# Altium schematic symbol library TMC5072-LA-T.SchLib: 1 symbol
Pins are listed as number, name and electrical type; pins without a type are passive.

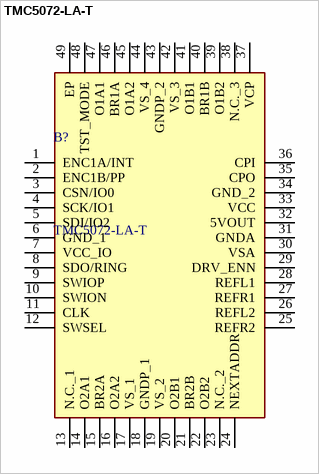
[diagram p0: symbol TMC5072-LA-T]

## TMC5072-LA-T
designator B?
Dual silent stepper motor cDriver 5 to 20V, up to 1.1A with SPI Interface, 256 Steps, SixPoint ramp controller, SpreadCycle and Stealthchop; Manufacturer_Name: Analog Devices; Geometry.Height: 0.9mm; Manufacturer_Part_Number: TMC5072-LA-T; Mouser Part Number: 700-TMC5072-LA-T; Mouser Price/Stock: https://www.mouser.co.uk/ProductDetail/ADI-Trinamic/TMC5072-LA-T?qs=7MVldsJ5UaxzlZc%252BdABOIA%3D%3D; Arrow Part Number: *; Arrow Price/Stock: *; Datasheet Link: https://www.analog.com/TMC5072/datasheet
footprint QFN50P700X700X90-49N-D
pins: 1 ENC1A/INT, 2 ENC1B/PP, 3 CSN/IO0, 4 SCK/IO1, 5 SDI/IO2, 6 GND_1, 7 VCC_IO, 8 SDO/RING, 9 SWIOP, 10 SWION, 11 CLK, 12 SWSEL, 13 N.C._1, 14 O2A1, 15 BR2A, 16 O2A2, 17 VS_1, 18 GNDP_1, 19 VS_2, 20 O2B1, 21 BR2B, 22 O2B2, 23 N.C._2, 24 NEXTADDR, 25 REFR2, 26 REFL2, 27 REFR1, 28 REFL1, 29 DRV_ENN, 30 VSA, 31 GNDA, 32 5VOUT, 33 VCC, 34 GND_2, 35 CPO, 36 CPI, 37 VCP, 38 N.C._3, 39 O1B2, 40 BR1B, 41 O1B1, 42 VS_3, 43 GNDP_2, 44 VS_4, 45 O1A2, 46 BR1A, 47 O1A1, 48 TST_MODE, 49 EP